# Altium footprint library Footprints.PcbLib: 27 footprints (part 2 of 2)
Each footprint in its own frame and in the unit in brackets; x right, y up, seen from the top. Pads: shape width x height; smd on the part's side, far side on the other; paste and mask are expansions set on the pad; w line width, h text height; cw(c..) or ccw(c..) is an arc to the next point about the centre after c.
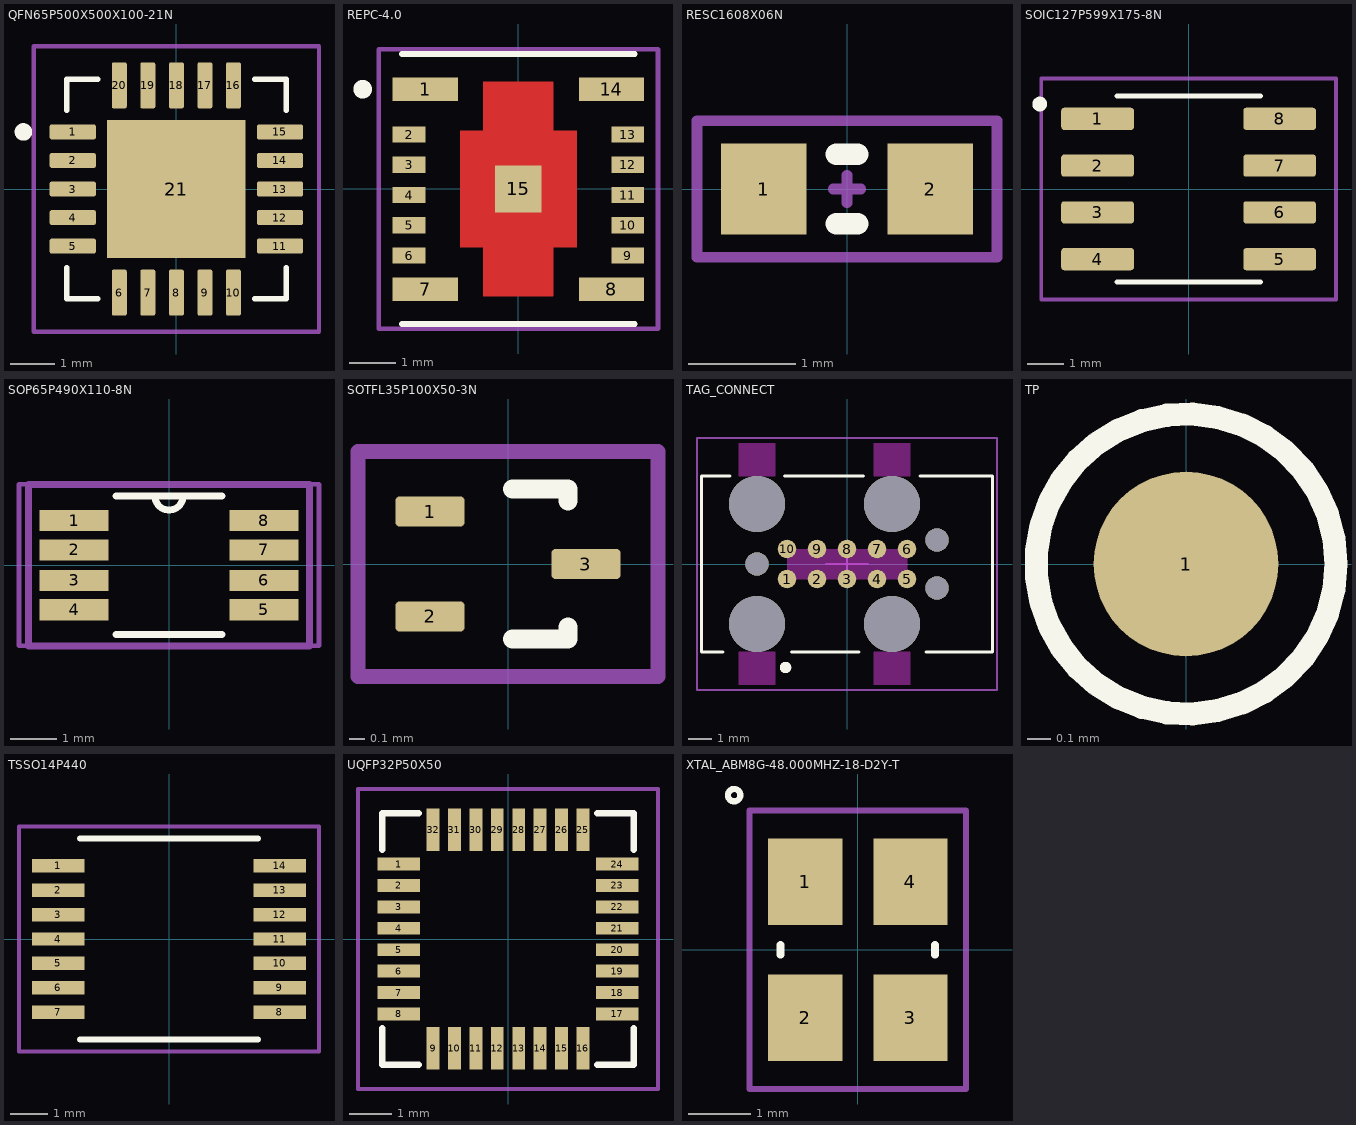
[diagram p1: the footprints below, top view; thin cyan lines are the x and y axes]

## QFN65P500X500X100-21N [mm]
pads (21):
  rrect25% 1.05x0.34 smd: 1(-2.36,1.3) 2(-2.36,0.65) 3(-2.36,0) 4(-2.36,-0.65) 5(-2.36,-1.3) 11(2.36,-1.3) 12(2.36,-0.65) 13(2.36,0) 14(2.36,0.65) 15(2.36,1.3)
  rrect25% 0.34x1.05 smd: 6(-1.3,-2.36) 7(-0.65,-2.36) 8(0,-2.36) 9(0.65,-2.36) 10(1.3,-2.36) 16(1.3,2.36) 17(0.65,2.36) 18(0,2.36) 19(-0.65,2.36) 20(-1.3,2.36)
  rect 3.15x3.15 smd paste-3: 21(0,0)
Top Overlay:
  circle w0.2: c-3.485,1.3 r0.1
  lines w0.127: -2.5,-1.79 -2.5,-2.5 -1.79,-2.5 ; -2.5,1.79 -2.5,2.5 -1.79,2.5 ; 1.79,-2.5 2.5,-2.5 2.5,-1.79 ; 1.79,2.5 2.5,2.5 2.5,1.79
Top Paste:
  region: 1.195,-1.195 0.195,-1.195 0.195,-0.195 1.195,-0.195
  region: 1.195,0.195 0.195,0.195 0.195,1.195 1.195,1.195
  region: -0.195,0.195 -1.195,0.195 -1.195,1.195 -0.195,1.195
  region: -0.195,-1.195 -1.195,-1.195 -1.195,-0.195 -0.195,-0.195
Top Component Outline:
  lines w0.1: -3.25,-3.25 -3.25,3.25 3.25,3.25 3.25,-3.25 -3.25,-3.25
Top Assembly:
  lines w0.1: -3.25,-3.25 3.25,-3.25 3.25,3.25 -3.25,3.25 -3.25,-3.25
  text ".Designator" at -2.65,-0.233 h0.5
3D body "TPS74401RGWT.step": height 1.01, standoff 0.01, extent -2.5,-2.5 2.5,2.5

## REPC-4.0 [mm]
pads (15):
  rect 1.4x0.5 smd: 1(-2,2.145) 7(-2,-2.155) 8(2,-2.155) 14(2,2.145)
  rect 0.7x0.35 smd: 2(-2.35,1.17) 3(-2.35,0.52) 4(-2.35,-0.13) 5(-2.35,-0.78) 6(-2.35,-1.43) 9(2.35,-1.43) 10(2.35,-0.78) 11(2.35,-0.13) 12(2.35,0.52) 13(2.35,1.17)
  rect 1x1 smd paste-1 mask+0.8: 15(0,0)
Top Layer:
  region: 0.75,1.25 1.25,1.25 1.25,-1.25 0.75,-1.25 0.75,-2.3 -0.75,-2.3 -0.75,-1.25 -1.25,-1.25 -1.25,1.25 -0.75,1.25 -0.75,2.3 0.75,2.3
Top Overlay:
  circle w0.2: c-3.346,2.145 r0.1
  lines w0.127: -2.5,-2.9 2.5,-2.9 ; -2.5,2.9 2.5,2.9
Top Component Outline:
  lines w0.1: -3,-3 3,-3 3,3 -3,3 -3,-3
Top Assembly:
  lines w0.1: -3,-3 3,-3 3,3 -3,3 -3,-3
  text ".Designator" at -2.4,-0.233 h0.5
3D body "RPX-4.0-R.step": height 4.1, standoff 0, extent -2.5,-2.75 2.5,2.75

## RESC1608X06N [mm] "Chip Resistor, 2-Leads, Body 1.60x0.80mm, IPC Medium Density"
height 0.6
pads (2):
  rect 0.8x0.85 smd: 1(-0.775,0) 2(0.775,0)
Top Overlay:
  lines w0.2: -0.1,-0.325 0.1,-0.325 ; -0.1,0.325 0.1,0.325
Top Component Outline:
  lines w0.1: -0.127,0 0.127,0 ; 0,-0.127 0,0.127 ; -1.397,-0.635 1.397,-0.635 1.397,0.635 -1.397,0.635 -1.397,-0.635
Top Assembly:
  lines w0.1: -1.397,-0.635 -1.397,0.635 1.397,0.635 1.397,-0.635 -1.397,-0.635
  text ".Designator" at -0.966,-0.01 h0.2
3D body: height 0.6, standoff 0, extent 0.4,-0.4 0.8,0.4
3D body: height 0.6, standoff 0, extent -0.8,-0.4 -0.4,0.4
3D body: height 0.6, standoff 0, extent -0.4,-0.4 0.4,0.4

## SOIC127P599X175-8N [mm]
pads (8):
  rrect25% 1.97x0.6 smd: 1(-2.47,1.905) 2(-2.47,0.635) 3(-2.47,-0.635) 4(-2.47,-1.905) 5(2.47,-1.905) 6(2.47,-0.635) 7(2.47,0.635) 8(2.47,1.905)
Top Overlay:
  circle w0.2: c-4.04,2.305 r0.1
  lines w0.127: -1.95,-2.525 1.95,-2.525 ; -1.95,2.525 1.95,2.525
Top Component Outline:
  lines w0.1: -4,-3 -4,3 4,3 4,-3 -4,-3
Top Assembly:
  lines w0.1: -4,-3 -4,3 4,3 4,-3 -4,-3
  text ".Designator" at -2.4,-0.233 h0.5
3D body "LM2662MX_NOPB.STEP": height 1.75, standoff 0, extent -3,-2.45 3,2.45

## SOP65P490X110-8N [mil] "SOP65P490X110-8N"
pads (8):
  rect 59x18 smd: 1(-81,38) 2(-81,13) 3(-81,-13) 4(-81,-38) 5(81,-38) 6(81,-13) 7(81,13) 8(81,38)
Top Overlay:
  lines w6: -45,-59 45,-59 ; -45,59 -12,59 ; 45,59 12,59 ; -12,59 ccw(c0,59) 12,59 ; -12,59 12,59
Top Component Outline:
  lines w3.94: -127.95,-68.9 -127.95,68.9 127.95,68.9 127.95,-68.9 -127.95,-68.9
Top Assembly:
  lines w3.94: -127.95,-68.9 127.95,-68.9 127.95,68.9 -127.95,68.9 -127.95,-68.9
  text ".Designator" at -79.03,-5.78 h15.75
Mechanical 15:
  lines w6: -120,-69 -120,69 120,69 120,-69 -120,-69
3D body "24LC01B-I_MS.STEP": height 43.31, standoff 0, extent -96.46,-59.06 96.46,59.06

## SOTFL35P100X50-3N [mm]
pads (3):
  rrect25% 0.46x0.2 smd: 1(-0.52,0.35) 2(-0.52,-0.35) 3(0.52,0)
Top Overlay:
  lines w0.127: 0.03,-0.5 0.4,-0.5 0.4,-0.42 ; 0.03,0.5 0.4,0.5 0.4,0.42
Top Component Outline:
  lines w0.1: -1,-0.75 -1,0.75 1,0.75 1,-0.75 -1,-0.75
Top Assembly:
  lines w0.1: -1,-0.75 -1,0.75 1,0.75 1,-0.75 -1,-0.75
  text ".Designator" at -1.4,-0.05 h0.3
3D body "TPD2EUSB30DRTR.step": height 0.51, standoff 0.01, extent -0.5,-0.5 0.5,0.5

## TAG_CONNECT [mil]
pads (17):
  round 31 smd paste-39.37: 1(-100,-25) 2(-50,-25) 3(0,-25) 4(50,-25) 5(100,-25) 6(100,25) 7(50,25) 8(0,25) 9(-50,25) 10(-100,25)
  round 93.5 hole 93.5 unplated: ""(-150,-100) ""(-150,100) ""(75,-100) ""(75,100)
  round 39 hole 39 unplated: ""(-150,0) ""(150,-39.96) ""(150,39.96)
Top Overlay:
  circle w9.45: c-102.36,-172.49 r4.72
  lines w5: -206.69,-146.77 -242.91,-146.77 -242.91,146.77 -194.88,146.77 ; -104.33,146.77 27.56,146.77 ; -92.52,-146.77 19.68,-146.77 ; 122.05,146.77 242.91,146.77 242.91,-146.77 131.89,-146.77
Keep-Out Layer:
  drawing of 21 lines, arcs and shapes, not listed
Top Component Outline:
  lines w3.94: -35,0 35,0 ; 0,-35 0,35 ; -250,-210 -250,210 250,210 250,-210 -250,-210
Top Assembly:
  lines w3.94: -250,-210 250,-210 250,210 -250,210 -250,-210
  text ".Designator" at -96.06,-4.5 h19.68

## TP [mm]
pads (1):
  round 0.8 smd: 1(0,0)
Top Overlay:
  circle w0.1: c0,0 r0.65

## TSSO14P440 [mil]
pads (14):
  rect 55.5x14 smd paste+0 mask+3.94: 1(-116.25,76.77) 2(-116.25,51.18) 3(-116.25,25.59) 4(-116.25,0) 5(-116.25,-25.59) 6(-116.25,-51.18) 7(-116.25,-76.77) 8(116.25,-76.77) 9(116.25,-51.18) 10(116.25,-25.59) 11(116.25,0) 12(116.25,25.59) 13(116.25,51.18) 14(116.25,76.77)
Top Overlay:
  lines w6: -93.5,-105.5 93.5,-105.5 ; -93.5,105.5 93.5,105.5
  text "." at -147.48,108.43 h39.37
Top Component Outline:
  lines w3.94: -157.48,-118.11 -157.48,118.11 157.48,118.11 157.48,-118.11 -157.48,-118.11
Top Assembly:
  lines w3.94: -157.48,-118.11 -157.48,118.11 157.48,118.11 157.48,-118.11 -157.48,-118.11
  text ".Designator" at -94.49,-9.19 h19.68
3D body "PW0014A.stp": height 44.49, standoff 0, extent -125.98,-98.43 125.98,98.43

## UQFP32P50X50 [mm]
pads (32):
  rect 1x0.3 smd paste-0.15 mask+0.1: 1(-2.55,1.75) 2(-2.55,1.25) 3(-2.55,0.75) 4(-2.55,0.25) 5(-2.55,-0.25) 6(-2.55,-0.75) 7(-2.55,-1.25) 8(-2.55,-1.75) 17(2.55,-1.75) 18(2.55,-1.25) 19(2.55,-0.75) 20(2.55,-0.25) 21(2.55,0.25) 22(2.55,0.75) 23(2.55,1.25) 24(2.55,1.75)
  rect 0.3x1 smd paste-0.15 mask+0.1: 9(-1.75,-2.55) 10(-1.25,-2.55) 11(-0.75,-2.55) 12(-0.25,-2.55) 13(0.25,-2.55) 14(0.75,-2.55) 15(1.25,-2.55) 16(1.75,-2.55) 25(1.75,2.55) 26(1.25,2.55) 27(0.75,2.55) 28(0.25,2.55) 29(-0.25,2.55) 30(-0.75,2.55) 31(-1.25,2.55) 32(-1.75,2.55)
Top Overlay:
  lines w0.152: -2.931,-2.078 -2.931,-2.931 -2.078,-2.931 ; -2.931,2.078 -2.931,2.931 -2.078,2.931 ; 2.078,-2.931 2.931,-2.931 2.931,-2.078 ; 2.078,2.931 2.931,2.931 2.931,2.078
  text "." at -3.246,1.754 h0.4
Top Component Outline:
  lines w0.1: -3.5,-3.5 3.5,-3.5 3.5,3.5 -3.5,3.5 -3.5,-3.5
Top Assembly:
  lines w0.1: -3.5,-3.5 -3.5,3.5 3.5,3.5 3.5,-3.5 -3.5,-3.5
  text ".Designator" at -2.4,-0.233 h0.5
3D body "UFQFPN-32.step": height 1.4, standoff 0, extent -2.601,-2.601 2.601,2.601

## XTAL_ABM8G-48.000MHZ-18-D2Y-T [mm]
pads (4):
  rect 1.2x1.4 smd: 1(-0.85,1.1) 2(-0.85,-1.1) 3(0.85,-1.1) 4(0.85,1.1)
Top Overlay:
  circle w0.1: c-2,2.5 r0.1
  lines w0.127: -1.25,-0.08 -1.25,0.08 ; 1.25,-0.08 1.25,0.08
Top Component Outline:
  lines w0.1: -1.75,-2.25 -1.75,2.25 1.75,2.25 1.75,-2.25 1.5,-2.25 -1.75,-2.25
Top Assembly:
  lines w0.1: -1.75,-2.25 -1.75,2.25 1.75,2.25 1.75,-2.25 -1.75,-2.25
  text ".Designator" at -0.017,-2.4 h0.5
3D body "ABM8G-48.000MHZ-18-D2Y-T.step": height 1, standoff 0.01, extent -1.245,-1.6 1.245,1.6